# Altium footprint library Diode.PcbLib: 29 footprints (part 2 of 2)
Each footprint in its own frame and in the unit in brackets; x right, y up, seen from the top. Pads: shape width x height; smd on the part's side, far side on the other; paste and mask are expansions set on the pad; w line width, h text height; cw(c..) or ccw(c..) is an arc to the next point about the centre after c.
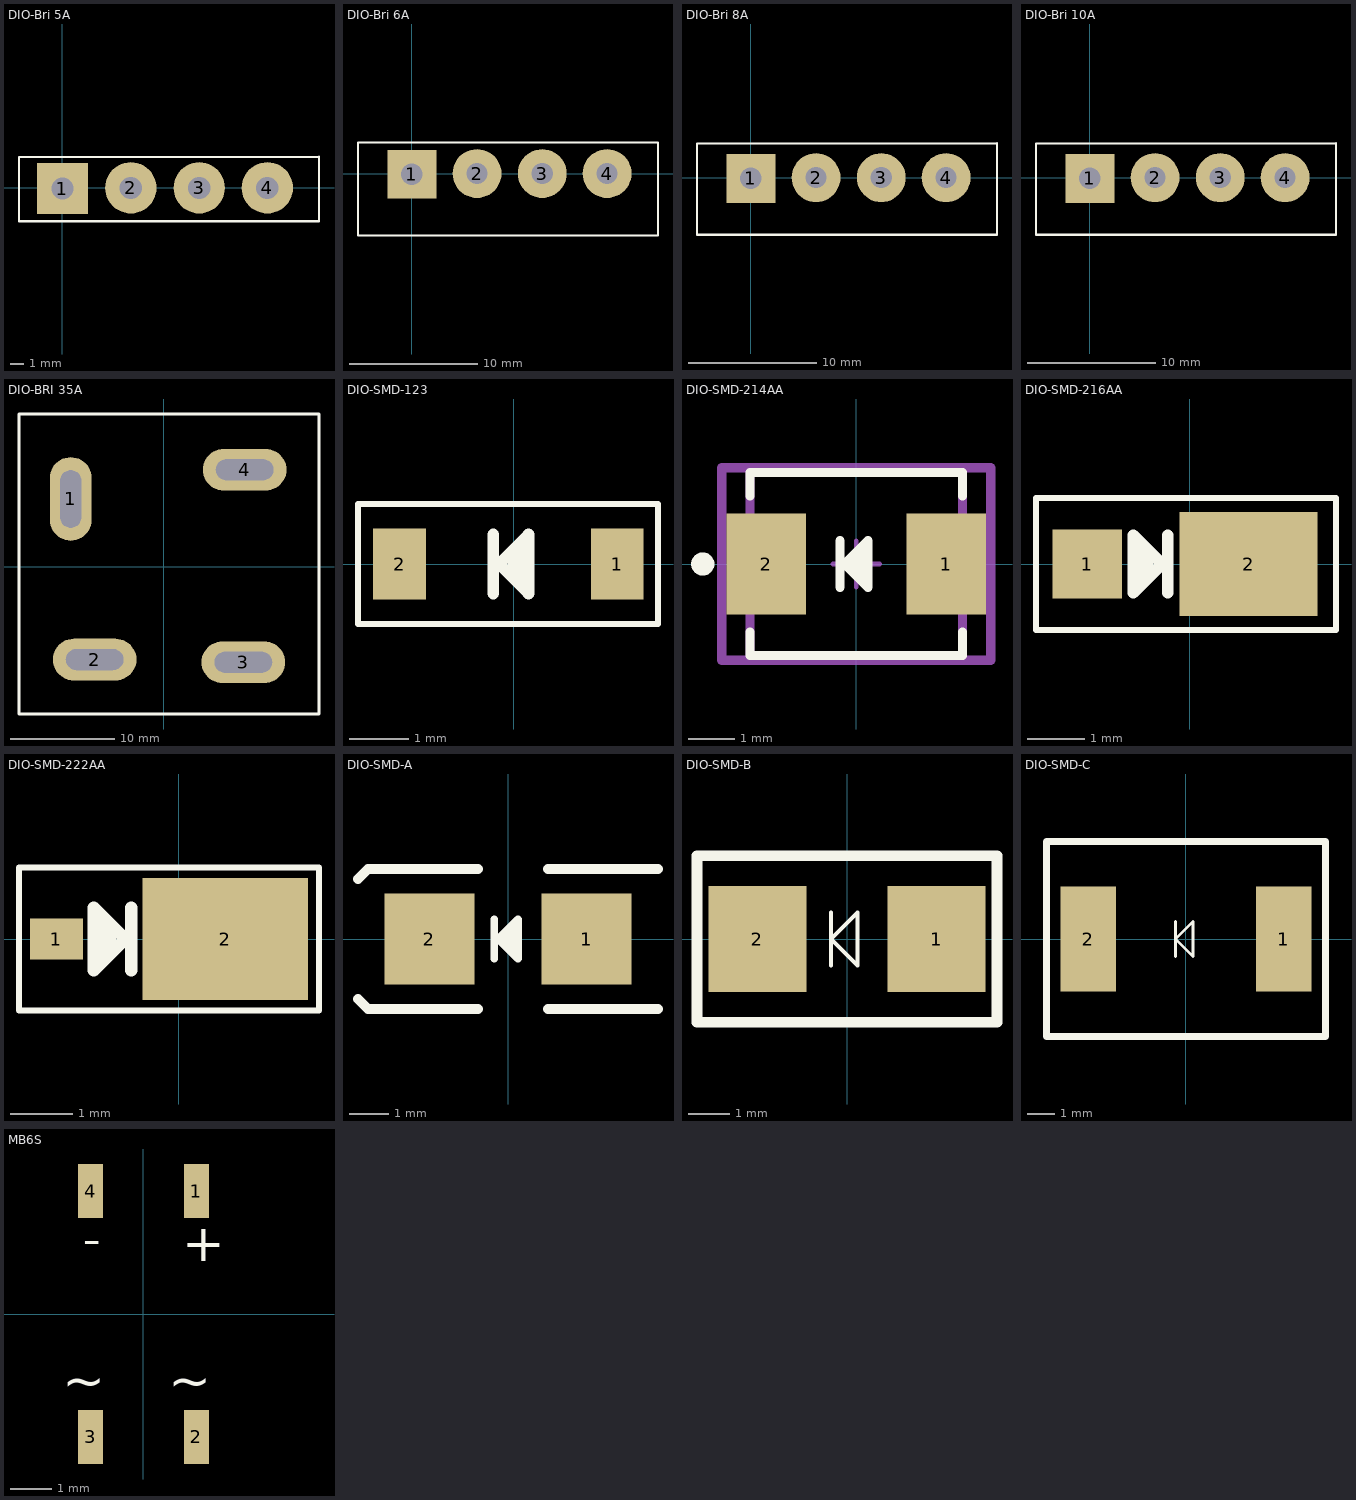
[diagram p1: the footprints below, top view; thin cyan lines are the x and y axes]

## DIO-Bri 5A [mil] "Brigde 5A"
height 800
pads (4):
  rect 150x150 hole 65: 1(0,-2)
  round 150 hole 65: 2(200,0) 3(400,0) 4(599,0)
Top Overlay:
  lines w7: -127,-97 -127,89.34 750,90.44 750,-97 -127,-97
3D body "SW3dPS-bridge 2.STEP": height 937.01, standoff -505.29, extent -128.98,-90 748.97,58.03

## DIO-Bri 6A [mil] "Brigde 6A"
height 800
pads (4):
  rect 150x150 hole 65: 1(0,-2)
  round 150 hole 65: 2(200,0) 3(400,0) 4(599,0)
Top Overlay:
  lines w7: -165,-190 755,-190 755,95.55 -165,94.4 -165,-190
3D body "User Library-Silicon Bridge Rectifiers RS606.step": height 931.1, standoff -852.36, extent -161.69,-185 751.69,88.62

## DIO-Bri 8A [mil] "Brigde 8A"
height 800
pads (4):
  rect 150x150 hole 65: 1(0,-2)
  round 150 hole 65: 2(200,0) 3(400,0) 4(599,0)
Top Overlay:
  lines w7: -165,-175 -165,104.19 755,105.34 755,-175 -165,-175
3D body "User Library-Silicon Bridge Rectifiers KBU8A.step": height 931.1, standoff -734.25, extent -161.7,-173.62 751.69,100

## DIO-Bri 10A [mil] "Brigde 10A"
height 800
pads (4):
  rect 150x150 hole 65: 1(0,-2)
  round 150 hole 65: 2(200,0) 3(400,0) 4(599,0)
Top Overlay:
  lines w7: -165,-175 755,-175 755,105.34 -165,104.19 -165,-175
3D body "User Library-Silicon Bridge Rectifiers KBU1010.step": height 931.1, standoff -734.25, extent -161.69,-173.62 751.69,100

## DIO-BRI 35A [mm] "35A/1000V"
pads (4):
  oval 4x8 hole 2 slot 5.5 at 90 deg: 1(-8.89,6.477)
  oval 8x4 hole 2 slot 5.5 at 0 deg: 2(-6.604,-8.89) 3(7.62,-9.144) 4(7.747,9.271)
Top Overlay:
  lines w0.254: -13.843,-14.097 -13.843,14.605 14.859,14.605 14.859,-14.097 -13.843,-14.097
3D body "User Library-Diode Bridge.step": height 7.5, standoff -14.5, extent -13.741,-14.046 14.859,14.554

## DIO-SMD-123 [mm]
pads (2):
  rect 0.9x1.2 smd: 1(1.757,0) 2(-1.943,0)
Top Overlay:
  lines w0.102: -2.65,-1.016 2.45,-1.016 2.45,1.016 -2.65,1.016 -2.65,-1.016
  lines w0.2: -0.35,-0.5 -0.35,0.5 ; 0,-0.15 0,0.15 ; 0.15,-0.3 0.15,0.3 ; -0.25,0 0.25,0.5 0.25,-0.5 -0.25,0
3D body "User Library-SOD-123.step": height 1.25, standoff 0, extent -1.849,-0.8 1.849,0.8

## DIO-SMD-214AA [mm] "DO214AA"
pads (2):
  rect 1.716x2.18 smd paste+0 mask+0: 1(1.937,0) 2(-1.937,0)
Top Overlay:
  circle w0.25: c-3.302,0 r0.125
  lines w0.2: -2.285,-1.465 -2.285,-1.97 2.285,-1.97 2.285,-1.465 ; -2.285,1.465 -2.285,1.97 2.285,1.97 2.285,1.465 ; -0.35,-0.5 -0.35,0.5 ; 0,-0.15 0,0.15 ; 0.15,-0.3 0.15,0.3 ; -0.25,0 0.25,0.5 0.25,-0.5 -0.25,0
Top Courtyard:
  lines w0.2: -2.895,-2.07 -2.895,2.07 2.895,2.07 2.895,-2.07 -2.895,-2.07
Top 3D Body:
  lines w0.2: -2.285,-1.97 -2.285,1.97 2.285,1.97 2.285,-1.97 -2.285,-1.97
Top Assembly:
  lines w0.2: -2.895,-2.07 -2.895,2.07 2.895,2.07 2.895,-2.07 -2.895,-2.07
Top Component Center:
  lines w0.1: -0.5,0 0.5,0 ; 0,-0.5 0,0.5
3D body "Diode_Vishay_B360B-E3-52T_eec.STEP": height 0.25, standoff 0, extent -2.895,-2.07 2.895,2.07

## DIO-SMD-216AA [mm] "DO216AA ST-MITE"
pads (2):
  rect 1.2x1.2 smd: 1(-1.778,0)
  rect 2.4x1.8 smd: 2(1.022,0)
Top Overlay:
  lines w0.102: -2.667,-1.143 2.54,-1.143 2.54,1.143 -2.667,1.143 -2.667,-1.143
  lines w0.2: -0.878,-0.3 -0.878,0.3 ; -0.728,-0.15 -0.728,0.15 ; -0.378,-0.5 -0.378,0.5 ; -0.978,-0.5 -0.978,0.5 -0.478,0 -0.978,-0.5
3D body "User Library-microsemi_powermite.step": height 1.02, standoff 0, extent -1.994,-0.955 1.766,0.955

## DIO-SMD-222AA [mm] "DO216AA ST-MITE"
pads (2):
  rect 0.85x0.65 smd: 1(-1.959,0)
  rect 2.65x1.95 smd: 2(0.741,0)
Top Overlay:
  lines w0.102: -2.559,-1.143 2.241,-1.143 2.241,1.143 -2.559,1.143 -2.559,-1.143
  lines w0.2: -1.259,-0.3 -1.259,0.3 ; -1.109,-0.15 -1.109,0.15 ; -0.759,-0.5 -0.759,0.5 ; -1.359,-0.5 -1.359,0.5 -0.859,0 -1.359,-0.5
3D body "User Library-DO216-AA.step": height 0.85, standoff 0, extent -2.154,-0.954 1.646,0.954

## DIO-SMD-A [mm]
pads (2):
  rect 2.286x2.3 smd: 1(2,0) 2(-2,0)
Top Overlay:
  lines w0.2: -0.35,-0.5 -0.35,0.5 ; 0,-0.15 0,0.15 ; 0.15,-0.3 0.15,0.3 ; -0.25,0 0.25,-0.5 0.25,0.5 -0.25,0
  lines w0.254: -3.81,-1.524 -3.556,-1.778 -0.762,-1.778 ; -3.81,1.524 -3.556,1.778 -0.762,1.778 ; 1.016,-1.778 3.81,-1.778 ; 1.016,1.778 3.556,1.778 3.81,1.778
Mechanical 1:
  lines w0.1: -0.166,0.127 0.234,0.127 ; 0.034,-0.073 0.034,0.327
3D body "User Library-DO-214Aa SMA.step": height 2.4, standoff 0, extent -2.6,-1.3 2.6,1.3

## DIO-SMD-B [mm] "Magnetic-Core Inductor with Winding Polarity Marking; 2 Leads"
pads (2):
  rect 2.35x2.55 smd: 1(2.15,0) 2(-2.15,0)
Top Overlay:
  lines w0.102: -0.381,-0.635 -0.381,0 ; -0.381,0.635 -0.381,0 ; -0.381,0 0.254,0.635 0.254,0 0.254,-0.635 -0.381,0
  lines w0.254: -3.6,-2 3.6,-2 3.6,2 -3.6,2 -3.6,-2
3D body "User Library-DO-214AA SMB.step": height 2.3, standoff 0, extent -2.71,-1.8 2.69,1.8

## DIO-SMD-C [mil]
pads (2):
  rect 80x150 smd: 1(140.24,0) 2(-139.76,0)
Top Overlay:
  lines w4: -14.76,-25 -14.76,0 ; -14.76,25 -14.76,0 ; -14.76,0 10.24,25 10.24,0 10.24,-25 -14.76,0
  lines w10: -200,-140 200,-140 200,140 -200,140 -200,-140
3D body "User Library-Diode Molded 5025Body.step": height 83.95, standoff -1.08, extent -155.28,-118.11 155.75,118.11

## MB6S [mm]
pads (4):
  rect 0.6x1.3 smd: 1(1.27,2.95) 2(1.27,-2.95) 3(-1.27,-2.95) 4(-1.27,2.95)
Top Overlay:
  text "~" at -0.916,-0.97 h1.52
  text "~" at 1.624,-0.97 h1.52
  text "+" at 0.929,0.968 h1.52
  text "-" at -1.453,1.096 h1.52
3D body "SOIC-4 (Fairchild).STEP": height 1.75, standoff 0, extent -2.35,-3.1 2.35,3.1